# EAGLE library part MAX4734 (library csandell)
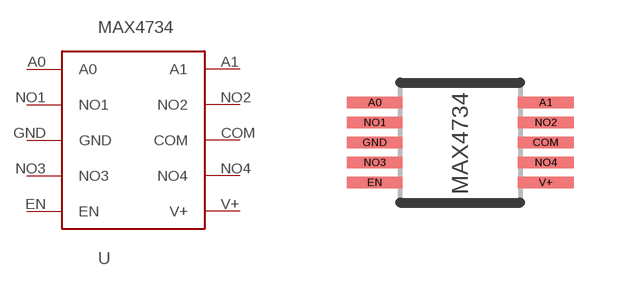
[diagram p2: symbol with the pads of UMAX-10; footprint UMAX-10]

Designator prefix -

## MAX4734MAX4734  [UMAX-10]
A0  A0
A1  A1
COM  COM
EN  EN
GND  GND
NO1  NO1
NO2  NO2
NO3  NO3
NO4  NO4
V+  V+

## Footprint UMAX-10 (pad centres in mm)
smd 1.4 x 0.28: A0 -2.14,1; A1 2.14,1; COM 2.14,0; EN -2.14,-1; GND -2.14,0; NO1 -2.14,0.5; NO2 2.14,0.5; NO3 -2.14,-0.5; NO4 2.14,-0.5; V+ 2.14,-1